# Altium footprint library 691 701 550 0xx B.PcbLib: 11 footprints
Each footprint in its own frame and in the unit in brackets; x right, y up, seen from the top. Pads: shape width x height; smd on the part's side, far side on the other; paste and mask are expansions set on the pad; w line width, h text height; cw(c..) or ccw(c..) is an arc to the next point about the centre after c.
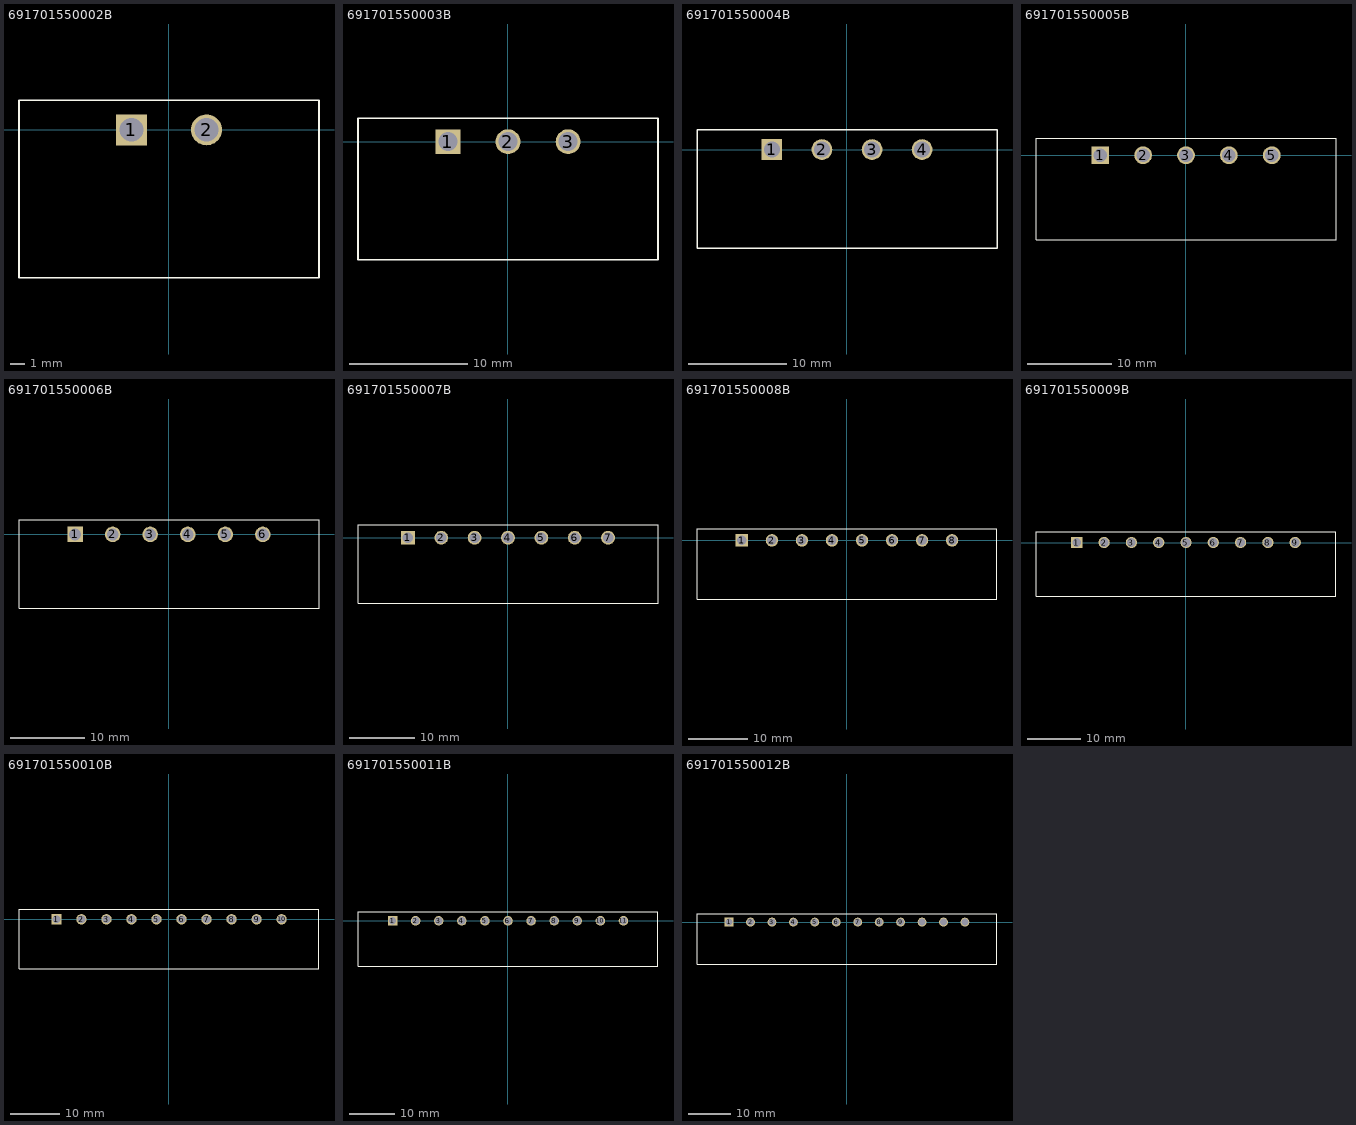
[diagram p0: the footprints below, top view; thin cyan lines are the x and y axes]

## 691701550002B [mm] "THR - 5,08mm - PCB Horizontal Flange - 02p"
height 8.4
pads (2):
  rect 2.1x2.1 hole 1.6: 1(-2.54,0)
  round 2.1 hole 1.6: 2(2.54,0)
Top Overlay:
  lines w0.127: -10.14,-10 -10.14,2 ; -10.14,-10 10.14,-10 ; -10.14,-10 10.14,-10 ; -10.14,-10 -10.14,2 ; -10.14,2 10.14,2 ; -10.14,2 10.14,2 ; 10.14,-10 10.14,2 ; 10.14,-10 10.14,2
3D body: height 8.41, standoff -2.59, extent -10.14,-10 10.18,2

## 691701550003B [mm] "THR - 5,08mm - PCB Horizontal Flange - 03p"
height 8.4
pads (3):
  rect 2.1x2.1 hole 1.6: 1(-5.08,0)
  round 2.1 hole 1.6: 2(0,0) 3(5.08,0)
Top Overlay:
  lines w0.127: -12.68,-10 -12.68,2 ; -12.68,-10 12.68,-10 ; -12.68,-10 12.68,-10 ; -12.68,-10 -12.68,2 ; -12.68,2 12.68,2 ; -12.68,2 12.68,2 ; 12.68,-10 12.68,2 ; 12.68,-10 12.68,2
3D body: height 8.41, standoff -2.59, extent -12.68,-10 12.72,2

## 691701550004B [mm] "THR - 5,08mm - PCB Horizontal Flange - 04p"
height 8.4
pads (4):
  rect 2.1x2.1 hole 1.6: 1(-7.62,0)
  round 2.1 hole 1.6: 2(-2.54,0) 3(2.54,0) 4(7.62,0)
Top Overlay:
  lines w0.127: -15.22,-10 -15.22,2 ; -15.22,-10 15.22,-10 ; -15.22,-10 15.22,-10 ; -15.22,-10 -15.22,2 ; -15.22,2 15.22,2 ; -15.22,2 15.22,2 ; 15.22,-10 15.22,2 ; 15.22,-10 15.22,2
3D body: height 8.41, standoff -2.59, extent -15.22,-10 15.26,2

## 691701550005B [mm] "THR - 5,08mm - PCB Horizontal Flange - 05p"
height 8.4
pads (5):
  rect 2.1x2.1 hole 1.6: 1(-10.16,0)
  round 2.1 hole 1.6: 2(-5.08,0) 3(0,0) 4(5.08,0) 5(10.16,0)
Top Overlay:
  lines w0.127: -17.76,-10 -17.76,2 ; -17.76,-10 17.76,-10 ; -17.76,-10 17.76,-10 ; -17.76,-10 -17.76,2 ; -17.76,2 17.76,2 ; -17.76,2 17.76,2 ; 17.76,-10 17.76,2 ; 17.76,-10 17.76,2
3D body: height 8.41, standoff -2.59, extent -17.76,-10 17.8,2

## 691701550006B [mm] "THR - 5,08mm - PCB Horizontal Flange - 06p"
height 8.4
pads (6):
  rect 2.1x2.1 hole 1.6: 1(-12.7,0)
  round 2.1 hole 1.6: 2(-7.62,0) 3(-2.54,0) 4(2.54,0) 5(7.62,0) 6(12.7,0)
Top Overlay:
  lines w0.127: -20.3,-10 -20.3,2 ; -20.3,-10 20.3,-10 ; -20.3,-10 20.3,-10 ; -20.3,-10 -20.3,2 ; -20.3,2 20.3,2 ; -20.3,2 20.3,2 ; 20.3,-10 20.3,2 ; 20.3,-10 20.3,2
3D body: height 8.41, standoff -2.59, extent -20.3,-10 20.34,2

## 691701550007B [mm] "THR - 5,08mm - PCB Horizontal Flange - 07p"
height 8.4
pads (7):
  rect 2.1x2.1 hole 1.6: 1(-15.24,0)
  round 2.1 hole 1.6: 2(-10.16,0) 3(-5.08,0) 4(0,0) 5(5.08,0) 6(10.16,0) 7(15.24,0)
Top Overlay:
  lines w0.127: -22.84,-10 -22.84,2 ; -22.84,-10 22.84,-10 ; -22.84,-10 22.84,-10 ; -22.84,-10 -22.84,2 ; -22.84,2 22.84,2 ; -22.84,2 22.84,2 ; 22.84,-10 22.84,2 ; 22.84,-10 22.84,2
3D body: height 8.41, standoff -2.59, extent -22.84,-10 22.88,2

## 691701550008B [mm] "THR - 5,08mm - PCB Horizontal Flange - 08p"
height 8.4
pads (8):
  rect 2.1x2.1 hole 1.6: 1(-17.78,0)
  round 2.1 hole 1.6: 2(-12.7,0) 3(-7.62,0) 4(-2.54,0) 5(2.54,0) 6(7.62,0) 7(12.7,0) 8(17.78,0)
Top Overlay:
  lines w0.127: -25.38,-10 -25.38,2 ; -25.38,-10 25.38,-10 ; -25.38,-10 25.38,-10 ; -25.38,-10 -25.38,2 ; -25.38,2 25.38,2 ; -25.38,2 25.38,2 ; 25.38,-10 25.38,2 ; 25.38,-10 25.38,2
3D body: height 8.41, standoff -2.59, extent -25.38,-10 25.42,2

## 691701550009B [mm] "THR - 5,08mm - PCB Horizontal Flange - 09p"
height 8.4
pads (9):
  rect 2.1x2.1 hole 1.6: 1(-20.32,0)
  round 2.1 hole 1.6: 2(-15.24,0) 3(-10.16,0) 4(-5.08,0) 5(0,0) 6(5.08,0) 7(10.16,0) 8(15.24,0) 9(20.32,0)
Top Overlay:
  lines w0.127: -27.92,-10 -27.92,2 ; -27.92,-10 27.92,-10 ; -27.92,-10 27.92,-10 ; -27.92,-10 -27.92,2 ; -27.92,2 27.92,2 ; -27.92,2 27.92,2 ; 27.92,-10 27.92,2 ; 27.92,-10 27.92,2
3D body: height 8.41, standoff -2.59, extent -27.92,-10 27.96,2

## 691701550010B [mm] "THR - 5,08mm - PCB Horizontal Flange - 10p"
height 8.4
pads (10):
  rect 2.1x2.1 hole 1.6: 1(-22.86,0)
  round 2.1 hole 1.6: 2(-17.78,0) 3(-12.7,0) 4(-7.62,0) 5(-2.54,0) 6(2.54,0) 7(7.62,0) 8(12.7,0) 9(17.78,0) 10(22.86,0)
Top Overlay:
  lines w0.127: -30.46,-10 -30.46,2 ; -30.46,-10 30.46,-10 ; -30.46,-10 30.46,-10 ; -30.46,-10 -30.46,2 ; -30.46,2 30.46,2 ; -30.46,2 30.46,2 ; 30.46,-10 30.46,2 ; 30.46,-10 30.46,2
3D body: height 8.41, standoff -2.59, extent -30.46,-10 30.5,2

## 691701550011B [mm] "THR - 5,08mm - PCB Horizontal Flange - 11p"
height 8.4
pads (11):
  rect 2.1x2.1 hole 1.6: 1(-25.4,0)
  round 2.1 hole 1.6: 2(-20.32,0) 3(-15.24,0) 4(-10.16,0) 5(-5.08,0) 6(0,0) 7(5.08,0) 8(10.16,0) 9(15.24,0) 10(20.32,0) 11(25.4,0)
Top Overlay:
  lines w0.127: -33,-10 -33,2 ; -33,-10 33,-10 ; -33,-10 33,-10 ; -33,-10 -33,2 ; -33,2 33,2 ; -33,2 33,2 ; 33,-10 33,2 ; 33,-10 33,2
3D body: height 8.41, standoff -2.59, extent -33,-10 33.04,2

## 691701550012B [mm] "THR - 5,08mm - PCB Horizontal Flange - 12p"
height 8.4
pads (12):
  rect 2.1x2.1 hole 1.6: 1(-27.94,0)
  round 2.1 hole 1.6: 2(-22.86,0) 3(-17.78,0) 4(-12.7,0) 5(-7.62,0) 6(-2.54,0) 7(2.54,0) 8(7.62,0) 9(12.7,0) 10(17.78,0) 11(22.86,0) 12(27.94,0)
Top Overlay:
  lines w0.127: -35.54,-10 -35.54,2 ; -35.54,-10 35.54,-10 ; -35.54,-10 35.54,-10 ; -35.54,-10 -35.54,2 ; -35.54,2 35.54,2 ; -35.54,2 35.54,2 ; 35.54,-10 35.54,2 ; 35.54,-10 35.54,2
3D body: height 8.41, standoff -2.59, extent -35.54,-10 35.58,2